# Altium footprint library YaoPCB.PCBLIB: 415 footprints (part 10 of 26)
Each footprint in its own frame and in the unit in brackets; x right, y up, seen from the top. Pads: shape width x height; smd on the part's side, far side on the other; paste and mask are expansions set on the pad; w line width, h text height; cw(c..) or ccw(c..) is an arc to the next point about the centre after c.
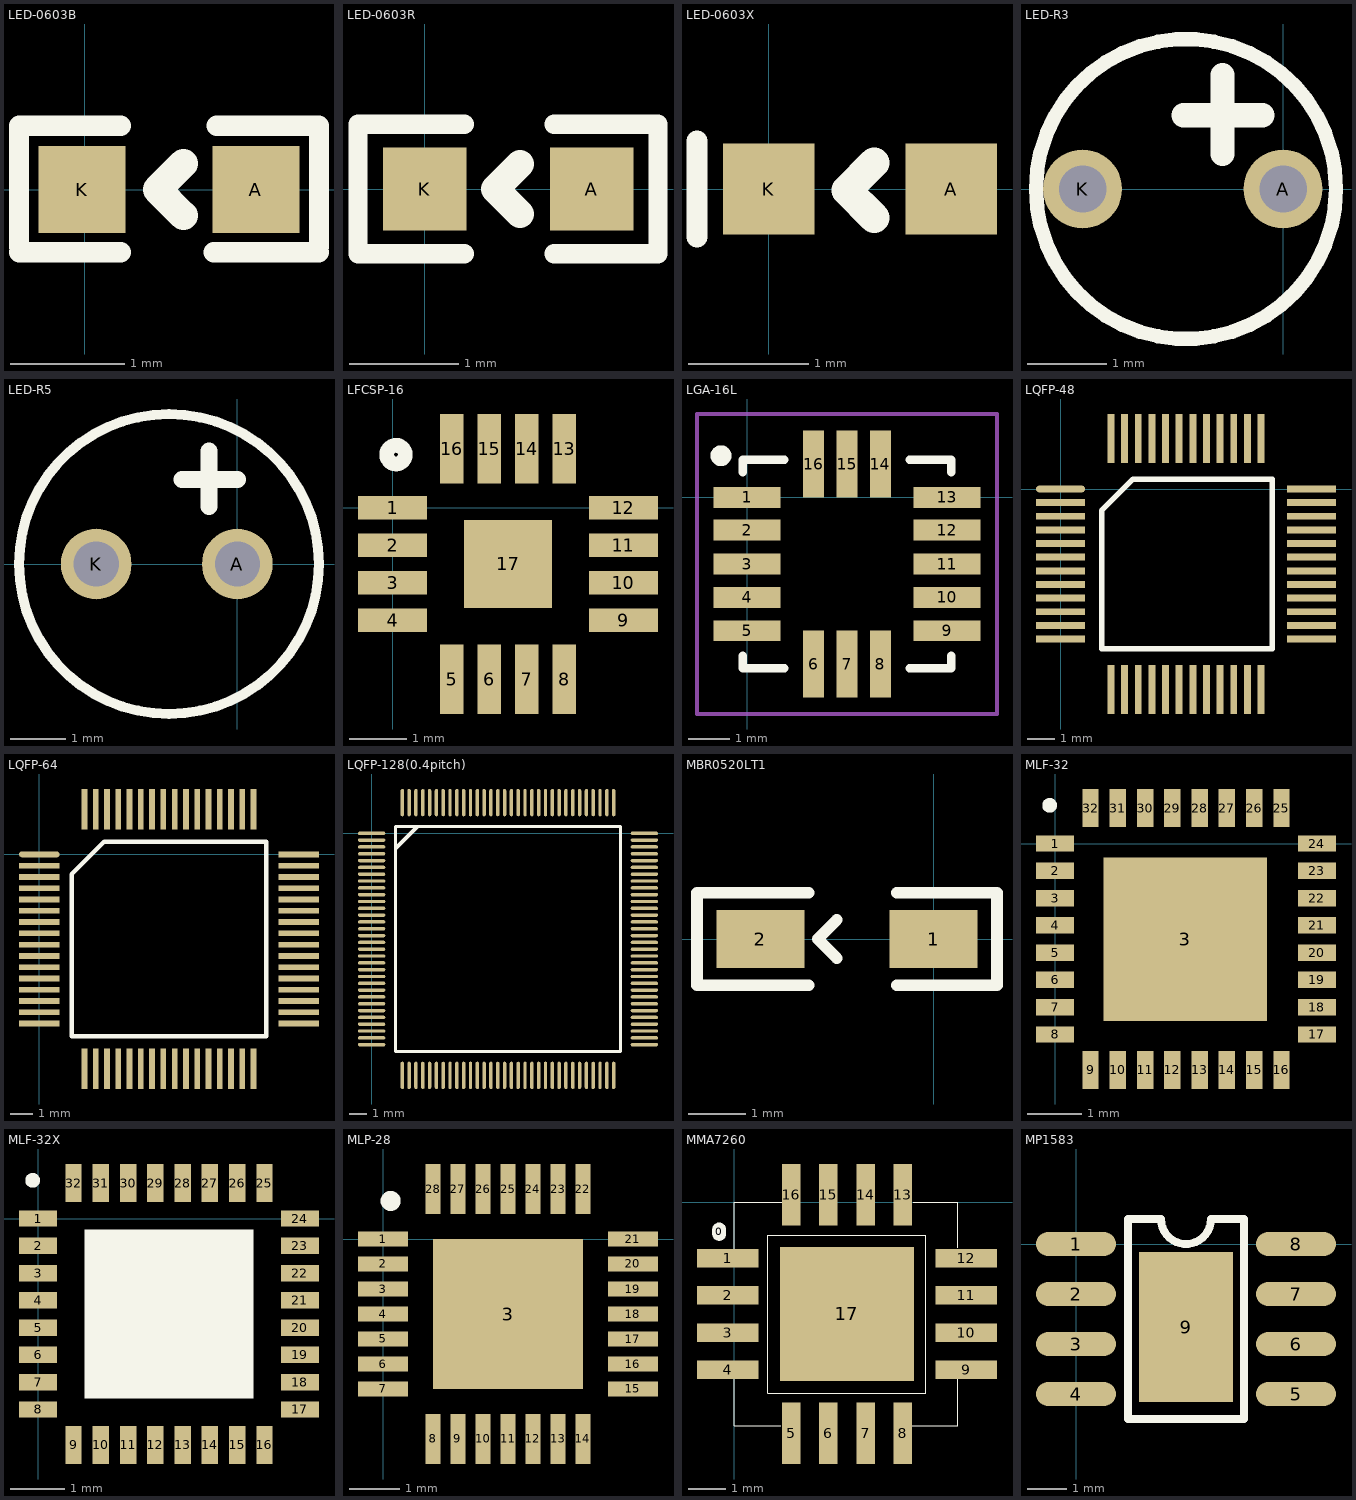
[diagram p9: the footprints below, top view; thin cyan lines are the x and y axes]

## LED-0603B [mil]
pads (2):
  rect 30x30 smd: A(59.05,0) K(-0.94,0)
TopOverlay:
  lines w7: -22.72,-21.68 12.44,-21.68 ; -22.72,-19.72 -22.72,21.83 ; -22.72,22.04 12.44,22.04 ; 44.44,-21.69 80.81,-21.69 ; 45.44,22.04 80.81,22.04 80.81,-19.72
  lines w10: 33.99,-9 24.99,0 33.99,9

## LED-0603R [mil]
pads (2):
  rect 30x30 smd: A(60,0) K(0,0)
TopOverlay:
  lines w7: 14.22,-23.23 -24.02,-23.23 -24.02,23.23 14.22,23.23 ; 46.46,-23.23 83.86,-23.23 83.86,23.23 46.46,23.23
  lines w10: 34.2,-9 25.2,0 34.2,9

## LED-0603X [mil]
pads (2):
  rect 30x30 smd: A(60,0) K(0,0)
TopOverlay:
  lines w7: -23.62,-15.75 -23.62,15.75
  lines w10: 34.59,-9.39 25.59,-0.39 34.59,8.61

## LED-R3 [mm]
pads (2):
  round 1 hole 0.6: A(0,0) K(-2.54,0)
TopOverlay:
  circle w0.18: c-1.23,0 r1.9
  lines w0.305: -1.26,0.934 -0.26,0.934 ; -0.768,0.442 -0.768,1.442

## LED-R5 [mil]
pads (2):
  round 50 hole 32: A(0,0) K(-100,0)
TopOverlay:
  circle w7.09: c-48.43,0 r106.3
  lines w12: -39.37,60 0,60 ; -20,40.63 -20,80

## LFCSP-16 [mm]
pads (17):
  rect 1.2x0.4 smd: 1(0,0) 2(0,-0.65) 3(0,-1.3) 4(0,-1.95) 9(4,-1.95) 10(4,-1.3) 11(4,-0.65) 12(4,0)
  rect 0.4x1.2 smd: 5(1.025,-2.975) 6(1.675,-2.975) 7(2.325,-2.975) 8(2.975,-2.975) 13(2.975,1.024) 14(2.325,1.024) 15(1.675,1.024) 16(1.025,1.024)
  rect 1.524x1.524 smd: 17(2,-0.975)
TopOverlay:
  circle w0.254: c0.059,0.92 r0.161

## LGA-16L [mm]
pads (16):
  rect 1.6x0.5 smd: 1(0,0) 2(0,-0.787) 3(0,-1.6) 4(0,-2.4) 5(0,-3.2) 9(4.8,-3.2) 10(4.8,-2.4) 11(4.8,-1.6) 12(4.8,-0.787) 13(4.8,0)
  rect 0.5x1.6 smd: 6(1.6,-4) 7(2.4,-4) 8(3.2,-4) 14(3.2,0.8) 15(2.4,0.8) 16(1.6,0.8)
TopOverlay:
  circle w0.25: c-0.625,1 r0.125
  lines w0.2: -0.1,-3.8 -0.1,-4.1 0.9,-4.1 ; -0.1,0.6 -0.1,0.9 0.9,0.9 ; 3.9,-4.1 4.9,-4.1 4.9,-3.8 ; 3.9,0.9 4.9,0.9 4.9,0.6
Mechanical15:
  lines w0.1: -1.2,-5.2 6,-5.2 6,2 -1.2,2 -1.2,-5.2

## LQFP-48 [mm]
pads (48):
  oval 1.8x0.254 smd: 1(0,0)
  rect 1.8x0.254 smd: 2(0,-0.5) 3(0,-1) 4(0,-1.5) 5(0,-2) 6(0,-2.5) 7(0,-3) 8(0,-3.5) 9(0,-4) 10(0,-4.5) 11(0,-5) 12(0,-5.5) 25(9.2,-5.5) 26(9.2,-5) 27(9.2,-4.5) 28(9.2,-4) 29(9.2,-3.5) 30(9.2,-3) 31(9.2,-2.5) 32(9.2,-2) 33(9.2,-1.5) 34(9.2,-1) 35(9.2,-0.5) 36(9.2,0)
  rect 0.254x1.8 smd: 13(1.85,-7.35) 14(2.35,-7.35) 15(2.85,-7.35) 16(3.35,-7.35) 17(3.85,-7.35) 18(4.35,-7.35) 19(4.85,-7.35) 20(5.35,-7.35) 21(5.85,-7.35) 22(6.35,-7.35) 23(6.85,-7.35) 24(7.35,-7.35) 37(7.35,1.85) 38(6.85,1.85) 39(6.35,1.85) 40(5.85,1.85) 41(5.35,1.85) 42(4.85,1.85) 43(4.35,1.85) 44(3.85,1.85) 45(3.35,1.85) 46(2.85,1.85) 47(2.35,1.85) 48(1.85,1.85)
TopOverlay:
  lines w0.2: 1.51,-5.85 1.51,-0.795 2.665,0.36 7.77,0.36 7.77,-5.85 1.51,-5.85

## LQFP-64 [mm]
pads (64):
  oval 1.8x0.254 smd: 1(0,0)
  rect 1.8x0.254 smd: 2(0,-0.5) 3(0,-1) 4(0,-1.5) 5(0,-2) 6(0,-2.5) 7(0,-3) 8(0,-3.5) 9(0,-4) 10(0,-4.5) 11(0,-5) 12(0,-5.5) 13(0,-6) 14(0,-6.5) 15(0,-7) 16(0,-7.5) 33(11.5,-7.5) 34(11.5,-7) 35(11.5,-6.5) 36(11.5,-6) 37(11.5,-5.5) 38(11.5,-5) 39(11.5,-4.5) 40(11.5,-4) 41(11.5,-3.5) 42(11.5,-3) 43(11.5,-2.5) 44(11.5,-2) 45(11.5,-1.5) 46(11.5,-1) 47(11.5,-0.5) 48(11.5,0)
  rect 0.254x1.8 smd: 17(2,-9.5) 18(2.5,-9.5) 19(3,-9.5) 20(3.5,-9.5) 21(4,-9.5) 22(4.5,-9.5) 23(5,-9.5) 24(5.5,-9.5) 25(6,-9.5) 26(6.5,-9.5) 27(7,-9.5) 28(7.5,-9.5) 29(8,-9.5) 30(8.5,-9.5) 31(9,-9.5) 32(9.5,-9.5) 49(9.5,2) 50(9,2) 51(8.5,2) 52(8,2) 53(7.5,2) 54(7,2) 55(6.5,2) 56(6,2) 57(5.5,2) 58(5,2) 59(4.5,2) 60(4,2) 61(3.5,2) 62(3,2) 63(2.5,2) 64(2,2)
TopOverlay:
  lines w0.2: 1.435,-8.065 10.065,-8.065 10.065,0.565 2.87,0.565 1.435,-0.87 1.435,-8.065

## LQFP-128(0.4pitch) [mm]
pads (128):
  oval 1.6x0.2 smd mask+0.08: 1(0,0) 2(0,-0.4) 3(0,-0.8) 4(0,-1.2) 5(0,-1.6) 6(0,-2) 7(0,-2.4) 8(0,-2.8) 9(0,-3.2) 10(0,-3.6) 11(0,-4) 12(0,-4.4) 13(0,-4.8) 14(0,-5.2) 15(0,-5.6) 16(0,-6) 17(0,-6.4) 18(0,-6.8) 19(0,-7.2) 20(0,-7.6) 21(0,-8) 22(0,-8.4) 23(0,-8.8) 24(0,-9.2) 25(0,-9.6) 26(0,-10) 27(0,-10.4) 28(0,-10.8) 29(0,-11.2) 30(0,-11.6) 31(0,-12) 32(0,-12.4) 65(16,-12.4) 66(16,-12) 67(16,-11.6) 68(16,-11.2) 69(16,-10.8) 70(16,-10.4) 71(16,-10) 72(16,-9.6) 73(16,-9.2) 74(16,-8.8) 75(16,-8.4) 76(16,-8) 77(16,-7.6) 78(16,-7.2) 79(16,-6.8) 80(16,-6.4) 81(16,-6) 82(16,-5.6) 83(16,-5.2) 84(16,-4.8) 85(16,-4.4) 86(16,-4) 87(16,-3.6) 88(16,-3.2) 89(16,-2.8) 90(16,-2.4) 91(16,-2) 92(16,-1.6) 93(16,-1.2) 94(16,-0.8) 95(16,-0.4) 96(16,0)
  oval 0.2x1.6 smd mask+0.08: 33(1.8,-14.2) 34(2.2,-14.2) 35(2.6,-14.2) 36(3,-14.2) 37(3.4,-14.2) 38(3.8,-14.2) 39(4.2,-14.2) 40(4.6,-14.2) 41(5,-14.2) 42(5.4,-14.2) 43(5.8,-14.2) 44(6.2,-14.2) 45(6.6,-14.2) 46(7,-14.2) 47(7.4,-14.2) 48(7.8,-14.2) 49(8.2,-14.2) 50(8.6,-14.2) 51(9,-14.2) 52(9.4,-14.2) 53(9.8,-14.2) 54(10.2,-14.2) 55(10.6,-14.2) 56(11,-14.2) 57(11.4,-14.2) 58(11.8,-14.2) 59(12.2,-14.2) 60(12.6,-14.2) 61(13,-14.2) 62(13.4,-14.2) 63(13.8,-14.2) 64(14.2,-14.2) 97(14.2,1.8) 98(13.8,1.8) 99(13.4,1.8) 100(13,1.8) 101(12.6,1.8) 102(12.2,1.8) 103(11.8,1.8) 104(11.4,1.8) 105(11,1.8) 106(10.6,1.8) 107(10.2,1.8) 108(9.8,1.8) 109(9.4,1.8) 110(9,1.8) 111(8.6,1.8) 112(8.2,1.8) 113(7.8,1.8) 114(7.4,1.8) 115(7,1.8) 116(6.6,1.8) 117(6.2,1.8) 118(5.8,1.8) 119(5.4,1.8) 120(5,1.8) 121(4.6,1.8) 122(4.2,1.8) 123(3.8,1.8) 124(3.4,1.8) 125(3,1.8) 126(2.6,1.8) 127(2.2,1.8) 128(1.8,1.8)
TopOverlay:
  lines w0.2: 1.4,-0.889 2.689,0.4 3.629,0.4 ; 1.4,-12.8 1.4,0.4 14.6,0.4 14.6,-12.8 1.4,-12.8

## MBR0520LT1 [mm]
pads (2):
  rect 1.524x1 smd: 1(0,0) 2(-3,0)
TopOverlay:
  lines w0.2: -2.159,-0.8 -4.1,-0.8 -4.1,0.8 -2.159,0.8 ; -1.676,-0.33 -2.007,0 -1.676,0.33 ; -0.635,-0.8 1.1,-0.8 1.1,0.8 -0.635,0.8

## MLF-32 [mm]
pads (33):
  rect 0.7x0.3 smd: 1(0,0) 2(0,-0.5) 3(0,-1) 4(0,-1.5) 5(0,-2) 6(0,-2.5) 7(0,-3) 8(0,-3.5) 17(4.8,-3.5) 18(4.8,-3) 19(4.8,-2.5) 20(4.8,-2) 21(4.8,-1.5) 22(4.8,-1) 23(4.8,-0.5) 24(4.8,0)
  rect 3x3 smd: 3(2.388,-1.753)
  rect 0.3x0.7 smd: 9(0.65,-4.15) 10(1.15,-4.15) 11(1.65,-4.15) 12(2.15,-4.15) 13(2.65,-4.15) 14(3.15,-4.15) 15(3.65,-4.15) 16(4.15,-4.15) 25(4.15,0.65) 26(3.65,0.65) 27(3.15,0.65) 28(2.65,0.65) 29(2.15,0.65) 30(1.65,0.65) 31(1.15,0.65) 32(0.65,0.65)
TopOverlay:
  circle w0.17: c-0.1,0.7 r0.05

## MLF-32X [mm]
pads (32):
  rect 0.7x0.3 smd: 1(0,0) 2(0,-0.5) 3(0,-1) 4(0,-1.5) 5(0,-2) 6(0,-2.5) 7(0,-3) 8(0,-3.5) 17(4.8,-3.5) 18(4.8,-3) 19(4.8,-2.5) 20(4.8,-2) 21(4.8,-1.5) 22(4.8,-1) 23(4.8,-0.5) 24(4.8,0)
  rect 0.3x0.7 smd: 9(0.65,-4.15) 10(1.15,-4.15) 11(1.65,-4.15) 12(2.15,-4.15) 13(2.65,-4.15) 14(3.15,-4.15) 15(3.65,-4.15) 16(4.15,-4.15) 25(4.15,0.65) 26(3.65,0.65) 27(3.15,0.65) 28(2.65,0.65) 29(2.15,0.65) 30(1.65,0.65) 31(1.15,0.65) 32(0.65,0.65)
TopOverlay:
  circle w0.17: c-0.1,0.7 r0.05
  rectangle: 0.85,-3.3 3.95,-0.2

## MLP-28 [mm]
pads (29):
  rect 1x0.3 smd: 1(0,0) 2(0,-0.5) 3(0,-1) 4(0,-1.5) 5(0,-2) 6(0,-2.5) 7(0,-3) 15(5,-3) 16(5,-2.5) 17(5,-2) 18(5,-1.5) 19(5,-1) 20(5,-0.5) 21(5,0)
  rect 3x3 smd: 3(2.5,-1.5)
  rect 0.3x1 smd: 8(1,-4) 9(1.5,-4) 10(2,-4) 11(2.5,-4) 12(3,-4) 13(3.5,-4) 14(4,-4) 22(4,1) 23(3.5,1) 24(3,1) 25(2.5,1) 26(2,1) 27(1.5,1) 28(1,1)
TopOverlay:
  circle w0.3: c0.153,0.762 r0.05

## MMA7260 [mil]
pads (18):
  oval 15x19.68 on Top Overlay: 0(-16,-31)
  rect 65x19.68 smd: 1(-6.87,-58.94) 2(-6.87,-98.31) 3(-6.87,-137.69) 4(-6.87,-177.06) 9(245.09,-177.06) 10(245.09,-137.69) 11(245.09,-98.31) 12(245.09,-58.95)
  rect 19.68x65 smd: 5(60.05,-243.98) 6(99.42,-243.98) 7(138.79,-243.98) 8(178.16,-243.98) 13(178.16,7.98) 14(138.79,7.98) 15(99.42,7.98) 16(60.05,7.98)
  rect 141.73x141.73 smd: 17(119,-118)
TopOverlay:
  lines w1: 0,-187 0,-236.22 ; 0,-186 0,-236.22 ; 0,-50 0,0 ; 0,-48 0,0 ; 49,-236.22 0,-236.22 ; 50,0 0,0 ; 51,0 0,0 ; 188,-236.22 236.22,-236.22 ; 236.22,-189 236.22,-236.22 ; 236.22,-187 236.22,-236.22 ; 236.22,-48 236.22,0 ; 236.22,-47 236.22,0 ; 236.22,0 189,0 236.22,0 ; 35.53,-201.57 35.53,-34.65 202.46,-34.65 202.46,-201.57 35.53,-201.57

## MP1583 [mil]
pads (9):
  oval 80x24 smd: 1(0,0) 2(0,-50) 3(0,-100) 4(0,-150) 5(220,-150) 6(220,-100) 7(220,-50) 8(220,0)
  rect 94.49x149.61 smd: 9(110,-83)
TopOverlay:
  lines w7.87: 52.13,-175 52.13,25 85,25 ccw(c110,25) 135,25 167.87,25 167.87,-175 52.13,-175